# EAGLE library part SAK-TC1100* (library micro-siemens)
32-bit Consumer Class TriCore Single-Chip Microcontroller Source: http://www.infineon.com/cmc_upload/documents/010/9915/TC1100_umsu_v10.pdf
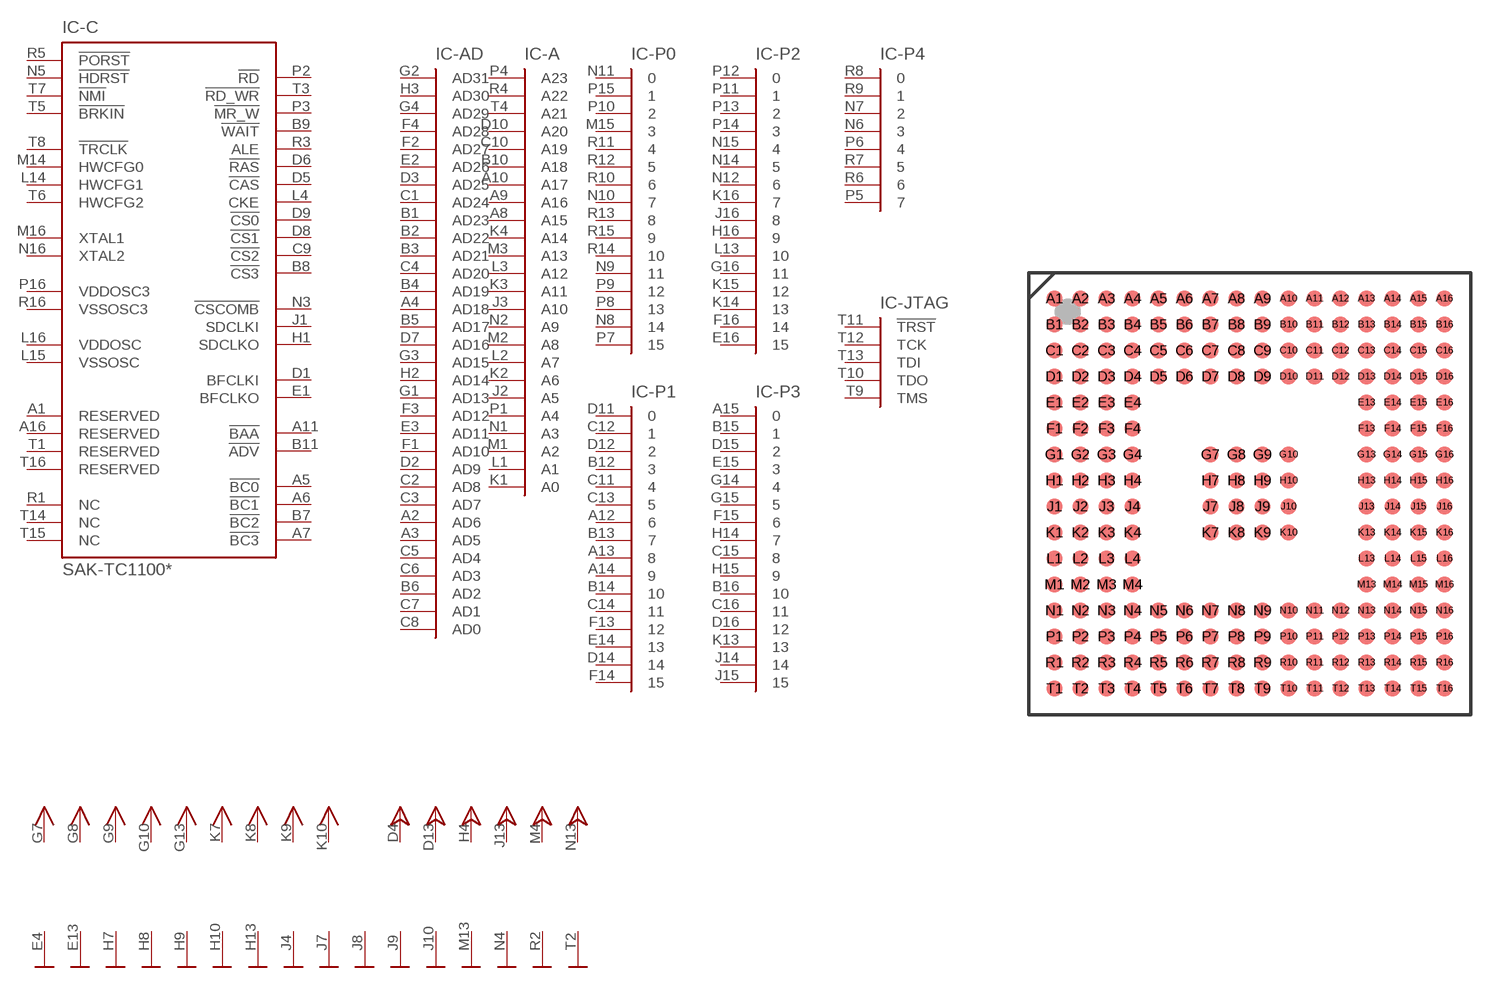
[diagram p45: symbol with the pads of P-LBGA-208-2; footprint P-LBGA-208-2]

Designator prefix IC; gates -C=TC1100 -P0=PORT16 -P1=PORT16 -P2=PORT16 -P3=PORT16 -P4=PORT8 -AD=AD31 -A=A23 -JTAG=JTAG -VSS1=VSS -VSS2=VSS -VSS3=VSS -VSS4=VSS -VSS5=VSS -VSS6=VSS -VSS7=VSS -VSS8=VSS -VSS9=VSS -VSS10=VSS -VSS11=VSS -VSS12=VSS -VSS13=VSS -VSS14=VSS -VSS15=VSS -VSS16=VSS -VDD1=VDD -VDD2=VDD -VDD3=VDD -VDD4=VDD -VDD5=VDD -VDD6=VDD -VDD7=VDD -VDD8=VDD -VDD9=VDD -VDDP1=VDDP -VDDP2=VDDP -VDDP3=VDDP -VDDP4=VDDP -VDDP5=VDDP -VDDP6=VDDP

## SAK-TC1100 (OC_FARNELL: unknown; OC_NEWARK: unknown)  [P-LBGA-208-2]
A1  -C:RESERVED  pas
A2  -AD:AD6
A3  -AD:AD5
A4  -AD:AD18
A5  -C:!BC0
A6  -C:!BC1
A7  -C:!BC3
A8  -A:A15  out
A9  -A:A16  out
A10  -A:A17  out
A11  -C:!BAA  out
A12  -P1:6  in
A13  -P1:8  in
A14  -P1:9  in
A15  -P3:0  in
A16  -C:RESERVED  pas
B1  -AD:AD23
B2  -AD:AD22
B3  -AD:AD21
B4  -AD:AD19
B5  -AD:AD17
B6  -AD:AD2
B7  -C:!BC2
B8  -C:!CS3  out
B9  -C:!WAIT  in
B10  -A:A18  out
B11  -C:!ADV  out
B12  -P1:3  in
B13  -P1:7  in
B14  -P1:10  in
B15  -P3:1  in
B16  -P3:10  in
C1  -AD:AD24
C2  -AD:AD8
C3  -AD:AD7
C4  -AD:AD20
C5  -AD:AD4
C6  -AD:AD3
C7  -AD:AD1
C8  -AD:AD0
C9  -C:!CS2  out
C10  -A:A19  out
C11  -P1:4  in
C12  -P1:1  in
C13  -P1:5  in
C14  -P1:11  in
C15  -P3:8  in
C16  -P3:11  in
D1  -C:BFCLKI  in
D2  -AD:AD9
D3  -AD:AD25
D4  -VDDP1:VDDP  pwr
D5  -C:!CAS  out
D6  -C:!RAS  out
D7  -AD:AD16
D8  -C:!CS1  out
D9  -C:!CS0  out
D10  -A:A20  out
D11  -P1:0  in
D12  -P1:2  in
D13  -VDDP2:VDDP  pwr
D14  -P1:14  in
D15  -P3:2  in
D16  -P3:12  in
E1  -C:BFCLKO  out
E2  -AD:AD26
E3  -AD:AD11
E4  -VSS1:VSS  pwr
E13  -VSS2:VSS  pwr
E14  -P1:13  in
E15  -P3:3  in
E16  -P2:15  in
F1  -AD:AD10
F2  -AD:AD27
F3  -AD:AD12
F4  -AD:AD28
F13  -P1:12  in
F14  -P1:15  in
F15  -P3:6  in
F16  -P2:14  in
G1  -AD:AD13
G2  -AD:AD31
G3  -AD:AD15
G4  -AD:AD29
G7  -VDD1:VDD  pwr
G8  -VDD2:VDD  pwr
G9  -VDD3:VDD  pwr
G10  -VDD4:VDD  pwr
G13  -VDD5:VDD  pwr
G14  -P3:4  in
G15  -P3:5  in
G16  -P2:11  in
H1  -C:SDCLKO  out
H2  -AD:AD14
H3  -AD:AD30
H4  -VDDP3:VDDP  pwr
H7  -VSS3:VSS  pwr
H8  -VSS4:VSS  pwr
H9  -VSS5:VSS  pwr
H10  -VSS6:VSS  pwr
H13  -VSS7:VSS  pwr
H14  -P3:7  in
H15  -P3:9  in
H16  -P2:9  in
J1  -C:SDCLKI  in
J2  -A:A5  out
J3  -A:A10  out
J4  -VSS8:VSS  pwr
J7  -VSS9:VSS  pwr
J8  -VSS10:VSS  pwr
J9  -VSS11:VSS  pwr
J10  -VSS12:VSS  pwr
J13  -VDDP4:VDDP  pwr
J14  -P3:14  in
J15  -P3:15  in
J16  -P2:8  in
K1  -A:A0  out
K2  -A:A6  out
K3  -A:A11  out
K4  -A:A14  out
K7  -VDD6:VDD  pwr
K8  -VDD7:VDD  pwr
K9  -VDD8:VDD  pwr
K10  -VDD9:VDD  pwr
K13  -P3:13  in
K14  -P2:13  in
K15  -P2:12  in
K16  -P2:7  in
L1  -A:A1  out
L2  -A:A7  out
L3  -A:A12  out
L4  -C:CKE  out
L13  -P2:10  in
L14  -C:HWCFG1  in
L15  -C:VSSOSC  in
L16  -C:VDDOSC  in
M1  -A:A2  out
M2  -A:A8  out
M3  -A:A13  out
M4  -VDDP5:VDDP  pwr
M13  -VSS13:VSS  pwr
M14  -C:HWCFG0  in
M15  -P0:3  in
M16  -C:XTAL1  in
N1  -A:A3  out
N2  -A:A9  out
N3  -C:!CSCOMB  out
N4  -VSS14:VSS  pwr
N5  -C:!HDRST
N6  -P4:3  in
N7  -P4:2  in
N8  -P0:14  in
N9  -P0:11  in
N10  -P0:7  in
N11  -P0:0  in
N12  -P2:6  in
N13  -VDDP6:VDDP  pwr
N14  -P2:5  in
N15  -P2:4  in
N16  -C:XTAL2  out
P1  -A:A4  out
P2  -C:!RD  out
P3  -C:!MR_W  out
P4  -A:A23  out
P5  -P4:7  in
P6  -P4:4  in
P7  -P0:15  in
P8  -P0:13  in
P9  -P0:12  in
P10  -P0:2  in
P11  -P2:1  in
P12  -P2:0  in
P13  -P2:2  in
P14  -P2:3  in
P15  -P0:1  in
P16  -C:VDDOSC3  in
R1  -C:NC  pas
R2  -VSS15:VSS  pwr
R3  -C:ALE  out
R4  -A:A22  out
R5  -C:!PORST  in
R6  -P4:6  in
R7  -P4:5  in
R8  -P4:0  in
R9  -P4:1  in
R10  -P0:6  in
R11  -P0:4  in
R12  -P0:5  in
R13  -P0:8  in
R14  -P0:10  in
R15  -P0:9  in
R16  -C:VSSOSC3  in
T1  -C:RESERVED  pas
T2  -VSS16:VSS  pwr
T3  -C:!RD_WR  out
T4  -A:A21  out
T5  -C:!BRKIN  in
T6  -C:HWCFG2  in
T7  -C:!NMI  in
T8  -C:!TRCLK  out
T9  -JTAG:TMS  in
T10  -JTAG:TDO  out
T11  -JTAG:!TRST  in
T12  -JTAG:TCK  in
T13  -JTAG:TDI  in
T14  -C:NC  pas
T15  -C:NC  pas
T16  -C:RESERVED  pas

## Footprint P-LBGA-208-2 (pad centres in mm)
P-LBGA-208-2 Low Profile Plastic Ball Grid Array Package Source: http://www.infineon.com .. TC1130_DS_v031.pdf
smd 0.6 x 0.6: A1 -7.5,7.5; A2 -6.5,7.5; A3 -5.5,7.5; A4 -4.5,7.5; A5 -3.5,7.5; A6 -2.5,7.5; A7 -1.5,7.5; A8 -0.5,7.5; A9 0.5,7.5; A10 1.5,7.5; A11 2.5,7.5; A12 3.5,7.5; A13 4.5,7.5; A14 5.5,7.5; A15 6.5,7.5; A16 7.5,7.5; B1 -7.5,6.5; B2 -6.5,6.5; B3 -5.5,6.5; B4 -4.5,6.5; B5 -3.5,6.5; B6 -2.5,6.5; B7 -1.5,6.5; B8 -0.5,6.5; B9 0.5,6.5; B10 1.5,6.5; B11 2.5,6.5; B12 3.5,6.5; B13 4.5,6.5; B14 5.5,6.5; B15 6.5,6.5; B16 7.5,6.5; C1 -7.5,5.5; C2 -6.5,5.5; C3 -5.5,5.5; C4 -4.5,5.5; C5 -3.5,5.5; C6 -2.5,5.5; C7 -1.5,5.5; C8 -0.5,5.5; C9 0.5,5.5; C10 1.5,5.5; C11 2.5,5.5; C12 3.5,5.5; C13 4.5,5.5; C14 5.5,5.5; C15 6.5,5.5; C16 7.5,5.5; D1 -7.5,4.5; D2 -6.5,4.5; D3 -5.5,4.5; D4 -4.5,4.5; D5 -3.5,4.5; D6 -2.5,4.5; D7 -1.5,4.5; D8 -0.5,4.5; D9 0.5,4.5; D10 1.5,4.5; D11 2.5,4.5; D12 3.5,4.5; D13 4.5,4.5; D14 5.5,4.5; D15 6.5,4.5; D16 7.5,4.5; E1 -7.5,3.5; E2 -6.5,3.5; E3 -5.5,3.5; E4 -4.5,3.5; E13 4.5,3.5; E14 5.5,3.5; E15 6.5,3.5; E16 7.5,3.5; F1 -7.5,2.5; F2 -6.5,2.5; F3 -5.5,2.5; F4 -4.5,2.5; F13 4.5,2.5; F14 5.5,2.5; F15 6.5,2.5; F16 7.5,2.5; G1 -7.5,1.5; G2 -6.5,1.5; G3 -5.5,1.5; G4 -4.5,1.5; G7 -1.5,1.5; G8 -0.5,1.5; G9 0.5,1.5; G10 1.5,1.5; G13 4.5,1.5; G14 5.5,1.5; G15 6.5,1.5; G16 7.5,1.5; H1 -7.5,0.5; H2 -6.5,0.5; H3 -5.5,0.5; H4 -4.5,0.5; H7 -1.5,0.5; H8 -0.5,0.5; H9 0.5,0.5; H10 1.5,0.5; H13 4.5,0.5; H14 5.5,0.5; H15 6.5,0.5; H16 7.5,0.5; J1 -7.5,-0.5; J2 -6.5,-0.5; J3 -5.5,-0.5; J4 -4.5,-0.5; J7 -1.5,-0.5; J8 -0.5,-0.5; J9 0.5,-0.5; J10 1.5,-0.5; J13 4.5,-0.5; J14 5.5,-0.5; J15 6.5,-0.5; J16 7.5,-0.5; K1 -7.5,-1.5; K2 -6.5,-1.5; K3 -5.5,-1.5; K4 -4.5,-1.5; K7 -1.5,-1.5; K8 -0.5,-1.5; K9 0.5,-1.5; K10 1.5,-1.5; K13 4.5,-1.5; K14 5.5,-1.5; K15 6.5,-1.5; K16 7.5,-1.5; L1 -7.5,-2.5; L2 -6.5,-2.5; L3 -5.5,-2.5; L4 -4.5,-2.5; L13 4.5,-2.5; L14 5.5,-2.5; L15 6.5,-2.5; L16 7.5,-2.5; M1 -7.5,-3.5; M2 -6.5,-3.5; M3 -5.5,-3.5; M4 -4.5,-3.5; M13 4.5,-3.5; M14 5.5,-3.5; M15 6.5,-3.5; M16 7.5,-3.5; N1 -7.5,-4.5; N2 -6.5,-4.5; N3 -5.5,-4.5; N4 -4.5,-4.5; N5 -3.5,-4.5; N6 -2.5,-4.5; N7 -1.5,-4.5; N8 -0.5,-4.5; N9 0.5,-4.5; N10 1.5,-4.5; N11 2.5,-4.5; N12 3.5,-4.5; N13 4.5,-4.5; N14 5.5,-4.5; N15 6.5,-4.5; N16 7.5,-4.5; P1 -7.5,-5.5; P2 -6.5,-5.5; P3 -5.5,-5.5; P4 -4.5,-5.5; P5 -3.5,-5.5; P6 -2.5,-5.5; P7 -1.5,-5.5; P8 -0.5,-5.5; P9 0.5,-5.5; P10 1.5,-5.5; P11 2.5,-5.5; P12 3.5,-5.5; P13 4.5,-5.5; P14 5.5,-5.5; P15 6.5,-5.5; P16 7.5,-5.5; R1 -7.5,-6.5; R2 -6.5,-6.5; R3 -5.5,-6.5; R4 -4.5,-6.5; R5 -3.5,-6.5; R6 -2.5,-6.5; R7 -1.5,-6.5; R8 -0.5,-6.5; R9 0.5,-6.5; R10 1.5,-6.5; R11 2.5,-6.5; R12 3.5,-6.5; R13 4.5,-6.5; R14 5.5,-6.5; R15 6.5,-6.5; R16 7.5,-6.5; T1 -7.5,-7.5; T2 -6.5,-7.5; T3 -5.5,-7.5; T4 -4.5,-7.5; T5 -3.5,-7.5; T6 -2.5,-7.5; T7 -1.5,-7.5; T8 -0.5,-7.5; T9 0.5,-7.5; T10 1.5,-7.5; T11 2.5,-7.5; T12 3.5,-7.5; T13 4.5,-7.5; T14 5.5,-7.5; T15 6.5,-7.5; T16 7.5,-7.5